# EAGLE library part CAZ_TRINKET (library caz_lib)
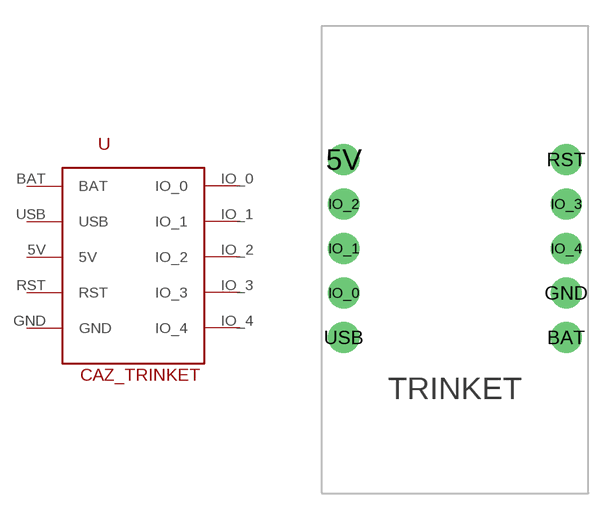
[diagram p3: symbol with the pads of CAZ_TRINKET; footprint CAZ_TRINKET]

Designator prefix -

## CAZ_TRINKET  [CAZ_TRINKET]
5V  5V
BAT  BAT
GND  GND
IO_0  IO_0
IO_1  IO_1
IO_2  IO_2
IO_3  IO_3
IO_4  IO_4
RST  RST
USB  USB

## Footprint CAZ_TRINKET (pad centres in mm)
drill 1.016 pad 1.778: 5V -6.35,5.08; BAT 6.35,-5.08; GND 6.35,-2.54; IO_0 -6.35,-2.54; IO_1 -6.35,0; IO_2 -6.35,2.54; IO_3 6.35,2.54; IO_4 6.35,0; RST 6.35,5.08; USB -6.35,-5.08